# Altium integrated library TI Data Converters Analog to Digital Converter.IntLib: 2197 symbols (part 108 of 168)
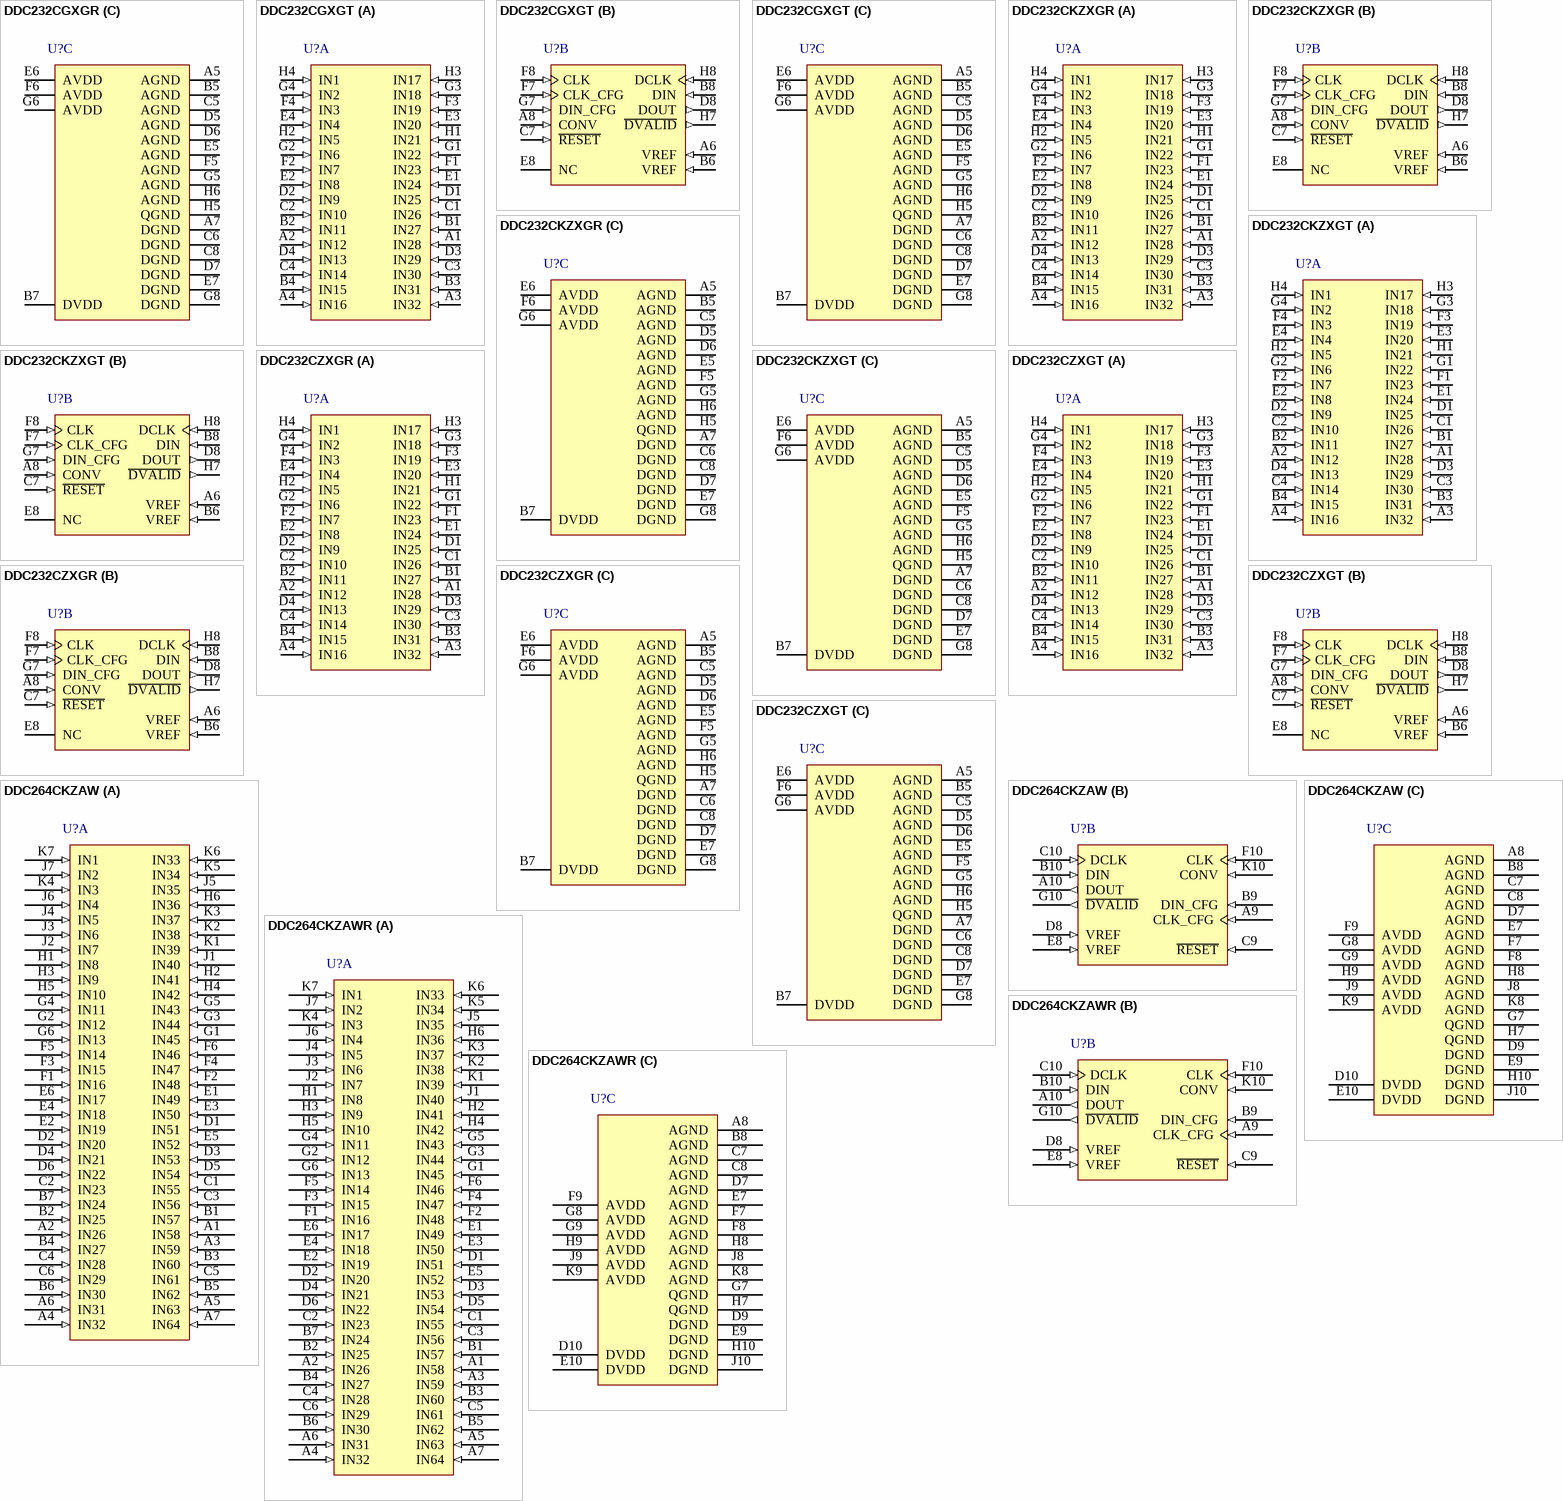
[diagram p233: symbols DDC232CGXGR to DDC264CKZAWR]

## DDC232CZXGR
designator U?
32 Channel Current-Input 20-Bit ADC, 0 to 70 degC, 64-pin BGA (ZXG64), Green (RoHS & no Sb/Br); Manufacturer: Texas Instruments; PartNumber: DDC232CZXGR; # Input Channels: 32; Analog Voltage AV/DD(Max)(V): 5.25; Analog Voltage AV/DD(Min)(V): 4.75; Architecture: Delta-Sigma; Digital Supply(Max)(V): 3.6; Digital Supply(Min)(V): 2.7; Resolution(Bits): 20; Sample Rate (max)(SPS): 3.125k; SubFamily: Low Power, 8-Bit, Dual 1.5 GSPS or Single 3.0 GSPS A/D Converter; DatasheetVersion: SBAS331D; PackageVersion: 4206838/A, 02/2005; PackageReference: ZXG64; PackageDescription: 64-Pin Plastic Ball Grid Array, Body 8 x 8 mm, Pitch 0.8 mm; Supplier 1: Digi-Key; Supplier Part Number 1: ADS574KEG4-ND; Supplier 2: Mouser; Supplier Part Number 2: 595-ADS574KEG4; Eco-Plan: Green (RoHS & no Sb/Br); Mounting Technology: Surface Mount; ComponentLink1Description: Manufacturer URL; ComponentLink1URL: http://www.ti.com/; ComponentLink2Description: Datasheet; ComponentLink2URL: http://www.ti.com/general/docs/lit/getliterature.tsp?genericPartNumber=DDC232&fileType=pdf; ComponentLink3Description: Package Specification; ComponentLink3URL: http://www.ti.com/litv/pdf/mpbg581
footprint TI-ZXG64 (BGA, 64-Balls, Body 8x8mm, Pitch 0.8mm)
part A pins: A1 IN28 (in) "Analog Inputs for Channels 1 to 32", A2 IN12 (in) "Analog Inputs for Channels 1 to 32", A3 IN32 (in) "Analog Inputs for Channels 1 to 32", A4 IN16 (in) "Analog Inputs for Channels 1 to 32", B1 IN27 (in) "Analog Inputs for Channels 1 to 32", B2 IN11 (in) "Analog Inputs for Channels 1 to 32", B3 IN31 (in) "Analog Inputs for Channels 1 to 32", B4 IN15 (in) "Analog Inputs for Channels 1 to 32", C1 IN26 (in) "Analog Inputs for Channels 1 to 32", C2 IN10 (in) "Analog Inputs for Channels 1 to 32", C3 IN30 (in) "Analog Inputs for Channels 1 to 32", C4 IN14 (in) "Analog Inputs for Channels 1 to 32", D1 IN25 (in) "Analog Inputs for Channels 1 to 32", D2 IN9 (in) "Analog Inputs for Channels 1 to 32", D3 IN29 (in) "Analog Inputs for Channels 1 to 32", D4 IN13 (in) "Analog Inputs for Channels 1 to 32", E1 IN24 (in) "Analog Inputs for Channels 1 to 32", E2 IN8 (in) "Analog Inputs for Channels 1 to 32", E3 IN20 (in) "Analog Inputs for Channels 1 to 32", E4 IN4 (in) "Analog Inputs for Channels 1 to 32", F1 IN23 (in) "Analog Inputs for Channels 1 to 32", F2 IN7 (in) "Analog Inputs for Channels 1 to 32", F3 IN19 (in) "Analog Inputs for Channels 1 to 32", F4 IN3 (in) "Analog Inputs for Channels 1 to 32", G1 IN22 (in) "Analog Inputs for Channels 1 to 32", G2 IN6 (in) "Analog Inputs for Channels 1 to 32", G3 IN18 (in) "Analog Inputs for Channels 1 to 32", G4 IN2 (in) "Analog Inputs for Channels 1 to 32", H1 IN21 (in) "Analog Inputs for Channels 1 to 32", H2 IN5 (in) "Analog Inputs for Channels 1 to 32", H3 IN17 (in) "Analog Inputs for Channels 1 to 32", H4 IN1 (in) "Analog Inputs for Channels 1 to 32"
part B pins: A6 VREF (in) "External Voltage Reference Input, +4.096V Nominal", A8 CONV (in) "Conversion Control Input; 0 = Integrate on Side B, 1 = Integrate on Side A", B6 VREF (in) "External Voltage Reference Input, +4.096V Nominal", B8 DIN (in) "Serial Data Input", C7 ~{RESET} (in) "Digital Reset, Active Low", D8 DOUT (out) "Serial Data Output", E8 NC "Do not connect; must be left floating.", F7 CLK_CFG (in) "Configuration Register Clock Input", F8 CLK (in) "Master Clock Input", G7 DIN_CFG (in) "Configuration Register Data Input", H7 ~{DVALID} (out) "Data Valid Output, Active Low", H8 DCLK (in) "Serial Data Clock Input"
part C pins: A5 AGND (power) "Analog Ground", A7 DGND (power) "Digital Ground", B5 AGND (power) "Analog Ground", B7 DVDD (power) "Digital Power Supply, 3.3V Nominal", C5 AGND (power) "Analog Ground", C6 DGND (power) "Digital Ground", C8 DGND (power) "Digital Ground", D5 AGND (power) "Analog Ground", D6 AGND (power) "Analog Ground", D7 DGND (power) "Digital Ground", E5 AGND (power) "Analog Ground", E6 AVDD (power) "Analog Power Supply, +5V Nominal", E7 DGND (power) "Digital Ground", F5 AGND (power) "Analog Ground", F6 AVDD (power) "Analog Power Supply, +5V Nominal", G5 AGND (power) "Analog Ground", G6 AVDD (power) "Analog Power Supply, +5V Nominal", G8 DGND (power) "Digital Ground", H5 QGND (power) "Quiet Analog Ground", H6 AGND (power) "Analog Ground"

## DDC232CZXGT
designator U?
32 Channel Current-Input 20-Bit ADC, 0 to 70 degC, 64-pin BGA (ZXG64), Green (RoHS & no Sb/Br); Manufacturer: Texas Instruments; PartNumber: DDC232CZXGT; # Input Channels: 32; Analog Voltage AV/DD(Max)(V): 5.25; Analog Voltage AV/DD(Min)(V): 4.75; Architecture: Delta-Sigma; Digital Supply(Max)(V): 3.6; Digital Supply(Min)(V): 2.7; Resolution(Bits): 20; Sample Rate (max)(SPS): 3.125k; SubFamily: Low Power, 8-Bit, Dual 1.5 GSPS or Single 3.0 GSPS A/D Converter; DatasheetVersion: SBAS331D; PackageVersion: 4206838/A, 02/2005; PackageReference: ZXG64; PackageDescription: 64-Pin Plastic Ball Grid Array, Body 8 x 8 mm, Pitch 0.8 mm; Supplier 1: Digi-Key; Supplier Part Number 1: ADS574KP-ND; Supplier 2: Newark; Supplier Part Number 2: 14M8145; Supplier 3: Mouser; Supplier Part Number 3: 595-ADS574KP; Eco-Plan: Green (RoHS & no Sb/Br); Mounting Technology: Surface Mount; ComponentLink1Description: Manufacturer URL; ComponentLink1URL: http://www.ti.com/; ComponentLink2Description: Datasheet; ComponentLink2URL: http://www.ti.com/general/docs/lit/getliterature.tsp?genericPartNumber=DDC232&fileType=pdf; ComponentLink3Description: Package Specification; ComponentLink3URL: http://www.ti.com/litv/pdf/mpbg581
footprint TI-ZXG64 (BGA, 64-Balls, Body 8x8mm, Pitch 0.8mm)
part A pins: A1 IN28 (in) "Analog Inputs for Channels 1 to 32", A2 IN12 (in) "Analog Inputs for Channels 1 to 32", A3 IN32 (in) "Analog Inputs for Channels 1 to 32", A4 IN16 (in) "Analog Inputs for Channels 1 to 32", B1 IN27 (in) "Analog Inputs for Channels 1 to 32", B2 IN11 (in) "Analog Inputs for Channels 1 to 32", B3 IN31 (in) "Analog Inputs for Channels 1 to 32", B4 IN15 (in) "Analog Inputs for Channels 1 to 32", C1 IN26 (in) "Analog Inputs for Channels 1 to 32", C2 IN10 (in) "Analog Inputs for Channels 1 to 32", C3 IN30 (in) "Analog Inputs for Channels 1 to 32", C4 IN14 (in) "Analog Inputs for Channels 1 to 32", D1 IN25 (in) "Analog Inputs for Channels 1 to 32", D2 IN9 (in) "Analog Inputs for Channels 1 to 32", D3 IN29 (in) "Analog Inputs for Channels 1 to 32", D4 IN13 (in) "Analog Inputs for Channels 1 to 32", E1 IN24 (in) "Analog Inputs for Channels 1 to 32", E2 IN8 (in) "Analog Inputs for Channels 1 to 32", E3 IN20 (in) "Analog Inputs for Channels 1 to 32", E4 IN4 (in) "Analog Inputs for Channels 1 to 32", F1 IN23 (in) "Analog Inputs for Channels 1 to 32", F2 IN7 (in) "Analog Inputs for Channels 1 to 32", F3 IN19 (in) "Analog Inputs for Channels 1 to 32", F4 IN3 (in) "Analog Inputs for Channels 1 to 32", G1 IN22 (in) "Analog Inputs for Channels 1 to 32", G2 IN6 (in) "Analog Inputs for Channels 1 to 32", G3 IN18 (in) "Analog Inputs for Channels 1 to 32", G4 IN2 (in) "Analog Inputs for Channels 1 to 32", H1 IN21 (in) "Analog Inputs for Channels 1 to 32", H2 IN5 (in) "Analog Inputs for Channels 1 to 32", H3 IN17 (in) "Analog Inputs for Channels 1 to 32", H4 IN1 (in) "Analog Inputs for Channels 1 to 32"
part B pins: A6 VREF (in) "External Voltage Reference Input, +4.096V Nominal", A8 CONV (in) "Conversion Control Input; 0 = Integrate on Side B, 1 = Integrate on Side A", B6 VREF (in) "External Voltage Reference Input, +4.096V Nominal", B8 DIN (in) "Serial Data Input", C7 ~{RESET} (in) "Digital Reset, Active Low", D8 DOUT (out) "Serial Data Output", E8 NC "Do not connect; must be left floating.", F7 CLK_CFG (in) "Configuration Register Clock Input", F8 CLK (in) "Master Clock Input", G7 DIN_CFG (in) "Configuration Register Data Input", H7 ~{DVALID} (out) "Data Valid Output, Active Low", H8 DCLK (in) "Serial Data Clock Input"
part C pins: A5 AGND (power) "Analog Ground", A7 DGND (power) "Digital Ground", B5 AGND (power) "Analog Ground", B7 DVDD (power) "Digital Power Supply, 3.3V Nominal", C5 AGND (power) "Analog Ground", C6 DGND (power) "Digital Ground", C8 DGND (power) "Digital Ground", D5 AGND (power) "Analog Ground", D6 AGND (power) "Analog Ground", D7 DGND (power) "Digital Ground", E5 AGND (power) "Analog Ground", E6 AVDD (power) "Analog Power Supply, +5V Nominal", E7 DGND (power) "Digital Ground", F5 AGND (power) "Analog Ground", F6 AVDD (power) "Analog Power Supply, +5V Nominal", G5 AGND (power) "Analog Ground", G6 AVDD (power) "Analog Power Supply, +5V Nominal", G8 DGND (power) "Digital Ground", H5 QGND (power) "Quiet Analog Ground", H6 AGND (power) "Analog Ground"

## DDC264CKZAW
designator U?
64-Channel, Current-Input ADC, 0 to 70 degC, 100-pin BGA (ZAW100), Green (RoHS & no Sb/Br); Manufacturer: Texas Instruments; PartNumber: DDC264CKZAW; # Input Channels: 64; Analog Voltage AV/DD(Max)(V): 5.25; Analog Voltage AV/DD(Min)(V): 4.75; Architecture: Delta-Sigma; Digital Supply(Max)(V): 3.6; Digital Supply(Min)(V): 2.7; Resolution(Bits): 20; Sample Rate (max)(SPS): 6.25k; SubFamily: Current Input ADC; DatasheetVersion: SBAS368C; PackageVersion: 4208028/C, 08/2009; PackageReference: ZAW100; PackageDescription: 100-Pin Plastic Ball Grid Array, Body 9 x 9 mm, Pitch 0.8 mm; Supplier 1: Digi-Key; Supplier Part Number 1: ADS574KPG4-ND; Supplier 2: Newark; Supplier Part Number 2: 99K1776; Supplier 3: Mouser; Supplier Part Number 3: 595-ADS574KPG4; Eco-Plan: Green (RoHS & no Sb/Br); Mounting Technology: Surface Mount; ComponentLink1Description: Manufacturer URL; ComponentLink1URL: http://www.ti.com/; ComponentLink2Description: Datasheet; ComponentLink2URL: http://www.ti.com/general/docs/lit/getliterature.tsp?genericPartNumber=DDC264&fileType=pdf; ComponentLink3Description: Package Specification; ComponentLink3URL: http://www.ti.com/litv/pdf/mpbg757b
footprint TI-ZAW100 (BGA, 100-Balls, Body 9x9mm, Pitch 0.8mm)
part A pins: A1 IN58 (in) "Analog inputs for channels 1 to 64", A2 IN26 (in) "Analog inputs for channels 1 to 64", A3 IN59 (in) "Analog inputs for channels 1 to 64", A4 IN32 (in) "Analog inputs for channels 1 to 64", A5 IN63 (in) "Analog inputs for channels 1 to 64", A6 IN31 (in) "Analog inputs for channels 1 to 64", A7 IN64 (in) "Analog inputs for channels 1 to 64", B1 IN57 (in) "Analog inputs for channels 1 to 64", B2 IN25 (in) "Analog inputs for channels 1 to 64", B3 IN60 (in) "Analog inputs for channels 1 to 64", B4 IN27 (in) "Analog inputs for channels 1 to 64", B5 IN62 (in) "Analog inputs for channels 1 to 64", B6 IN30 (in) "Analog inputs for channels 1 to 64", B7 IN24 (in) "Analog inputs for channels 1 to 64", C1 IN55 (in) "Analog inputs for channels 1 to 64", C2 IN23 (in) "Analog inputs for channels 1 to 64", C3 IN56 (in) "Analog inputs for channels 1 to 64", C4 IN28 (in) "Analog inputs for channels 1 to 64", C5 IN61 (in) "Analog inputs for channels 1 to 64", C6 IN29 (in) "Analog inputs for channels 1 to 64", D1 IN51 (in) "Analog inputs for channels 1 to 64", D2 IN20 (in) "Analog inputs for channels 1 to 64", D3 IN53 (in) "Analog inputs for channels 1 to 64", D4 IN21 (in) "Analog inputs for channels 1 to 64", D5 IN54 (in) "Analog inputs for channels 1 to 64", D6 IN22 (in) "Analog inputs for channels 1 to 64", E1 IN49 (in) "Analog inputs for channels 1 to 64", E2 IN19 (in) "Analog inputs for channels 1 to 64", E3 IN50 (in) "Analog inputs for channels 1 to 64", E4 IN18 (in) "Analog inputs for channels 1 to 64", E5 IN52 (in) "Analog inputs for channels 1 to 64", E6 IN17 (in) "Analog inputs for channels 1 to 64", F1 IN16 (in) "Analog inputs for channels 1 to 64", F2 IN48 (in) "Analog inputs for channels 1 to 64", F3 IN15 (in) "Analog inputs for channels 1 to 64", F4 IN47 (in) "Analog inputs for channels 1 to 64", F5 IN14 (in) "Analog inputs for channels 1 to 64", F6 IN46 (in) "Analog inputs for channels 1 to 64", G1 IN45 (in) "Analog inputs for channels 1 to 64", G2 IN12 (in) "Analog inputs for channels 1 to 64", G3 IN44 (in) "Analog inputs for channels 1 to 64", G4 IN11 (in) "Analog inputs for channels 1 to 64", G5 IN43 (in) "Analog inputs for channels 1 to 64", G6 IN13 (in) "Analog inputs for channels 1 to 64", H1 IN8 (in) "Analog inputs for channels 1 to 64", H2 IN41 (in) "Analog inputs for channels 1 to 64", H3 IN9 (in) "Analog inputs for channels 1 to 64", H4 IN42 (in) "Analog inputs for channels 1 to 64", H5 IN10 (in) "Analog inputs for channels 1 to 64", H6 IN36 (in) "Analog inputs for channels 1 to 64", J1 IN40 (in) "Analog inputs for channels 1 to 64", J2 IN7 (in) "Analog inputs for channels 1 to 64", J3 IN6 (in) "Analog inputs for channels 1 to 64", J4 IN5 (in) "Analog inputs for channels 1 to 64", J5 IN35 (in) "Analog inputs for channels 1 to 64", J6 IN4 (in) "Analog inputs for channels 1 to 64", J7 IN2 (in) "Analog inputs for channels 1 to 64", K1 IN39 (in) "Analog inputs for channels 1 to 64", K2 IN38 (in) "Analog inputs for channels 1 to 64", K3 IN37 (in) "Analog inputs for channels 1 to 64", K4 IN3 (in) "Analog inputs for channels 1 to 64", K5 IN34 (in) "Analog inputs for channels 1 to 64", K6 IN33 (in) "Analog inputs for channels 1 to 64", K7 IN1 (in) "Analog inputs for channels 1 to 64"
part B pins: A9 CLK_CFG (in) "Configuration register clock input", A10 DOUT (out) "Serial data output", B9 DIN_CFG (in) "Configuration register data input", B10 DIN (in) "Serial data input", C9 ~{RESET} (in) "Digital reset, active low", C10 DCLK (in) "Serial data clock input", D8 VREF (in) "External voltage reference input, +4.096V nominal", E8 VREF (in) "External voltage reference input, +4.096V nominal", F10 CLK (in) "Master clock input", G10 ~{DVALID} (out) "Data valid output, active low", K10 CONV (in) "Conversion control input: 0 = integrate on side B; 1 = integrate on side A"
part C pins: A8 AGND (power) "Analog ground", B8 AGND (power) "Analog ground", C7 AGND (power) "Analog ground", C8 AGND (power) "Analog ground", D7 AGND (power) "Analog ground", D9 DGND (power) "Digital ground", D10 DVDD (power) "Digital power supply, +3.3V nominal", E7 AGND (power) "Analog ground", E9 DGND (power) "Digital ground", E10 DVDD (power) "Digital power supply, +3.3V nominal", F7 AGND (power) "Analog ground", F8 AGND (power) "Analog ground", F9 AVDD (power) "Analog power supply, +5V nominal", G7 QGND (power) "Quiet analog ground; see the guidelines described in the Layout section", G8 AVDD (power) "Analog power supply, +5V nominal", G9 AVDD (power) "Analog power supply, +5V nominal", H7 QGND (power) "Quiet analog ground; see the guidelines described in the Layout section", H8 AGND (power) "Analog ground", H9 AVDD (power) "Analog power supply, +5V nominal", H10 DGND (power) "Digital ground", J8 AGND (power) "Analog ground", J9 AVDD (power) "Analog power supply, +5V nominal", J10 DGND (power) "Digital ground", K8 AGND (power) "Analog ground", K9 AVDD (power) "Analog power supply, +5V nominal"

## DDC264CKZAWR
designator U?
64-Channel, Current-Input ADC, 0 to 70 degC, 100-pin BGA (ZAW100), Green (RoHS & no Sb/Br); Manufacturer: Texas Instruments; PartNumber: DDC264CKZAWR; # Input Channels: 64; Analog Voltage AV/DD(Max)(V): 5.25; Analog Voltage AV/DD(Min)(V): 4.75; Architecture: Delta-Sigma; Digital Supply(Max)(V): 3.6; Digital Supply(Min)(V): 2.7; Resolution(Bits): 20; Sample Rate (max)(SPS): 6.25k; SubFamily: Current Input ADC; DatasheetVersion: SBAS368C; PackageVersion: 4208028/C, 08/2009; PackageReference: ZAW100; PackageDescription: 100-Pin Plastic Ball Grid Array, Body 9 x 9 mm, Pitch 0.8 mm; Supplier 1: Digi-Key; Supplier Part Number 1: ADS7800JP-ND; Supplier 2: Farnell; Supplier Part Number 2: 1648599; Supplier 3: Newark; Supplier Part Number 3: 80P3658; Supplier 4: Newark; Supplier Part Number 4: 14M8147; Supplier 5: Mouser; Supplier Part Number 5: 595-ADS7800JP; Eco-Plan: Green (RoHS & no Sb/Br); Mounting Technology: Surface Mount; ComponentLink1Description: Manufacturer URL; ComponentLink1URL: http://www.ti.com/; ComponentLink2Description: Datasheet; ComponentLink2URL: http://www.ti.com/general/docs/lit/getliterature.tsp?genericPartNumber=DDC264&fileType=pdf; ComponentLink3Description: Package Specification; ComponentLink3URL: http://www.ti.com/litv/pdf/mpbg757b
footprint TI-ZAW100 (BGA, 100-Balls, Body 9x9mm, Pitch 0.8mm)
part A pins: A1 IN58 (in) "Analog inputs for channels 1 to 64", A2 IN26 (in) "Analog inputs for channels 1 to 64", A3 IN59 (in) "Analog inputs for channels 1 to 64", A4 IN32 (in) "Analog inputs for channels 1 to 64", A5 IN63 (in) "Analog inputs for channels 1 to 64", A6 IN31 (in) "Analog inputs for channels 1 to 64", A7 IN64 (in) "Analog inputs for channels 1 to 64", B1 IN57 (in) "Analog inputs for channels 1 to 64", B2 IN25 (in) "Analog inputs for channels 1 to 64", B3 IN60 (in) "Analog inputs for channels 1 to 64", B4 IN27 (in) "Analog inputs for channels 1 to 64", B5 IN62 (in) "Analog inputs for channels 1 to 64", B6 IN30 (in) "Analog inputs for channels 1 to 64", B7 IN24 (in) "Analog inputs for channels 1 to 64", C1 IN55 (in) "Analog inputs for channels 1 to 64", C2 IN23 (in) "Analog inputs for channels 1 to 64", C3 IN56 (in) "Analog inputs for channels 1 to 64", C4 IN28 (in) "Analog inputs for channels 1 to 64", C5 IN61 (in) "Analog inputs for channels 1 to 64", C6 IN29 (in) "Analog inputs for channels 1 to 64", D1 IN51 (in) "Analog inputs for channels 1 to 64", D2 IN20 (in) "Analog inputs for channels 1 to 64", D3 IN53 (in) "Analog inputs for channels 1 to 64", D4 IN21 (in) "Analog inputs for channels 1 to 64", D5 IN54 (in) "Analog inputs for channels 1 to 64", D6 IN22 (in) "Analog inputs for channels 1 to 64", E1 IN49 (in) "Analog inputs for channels 1 to 64", E2 IN19 (in) "Analog inputs for channels 1 to 64", E3 IN50 (in) "Analog inputs for channels 1 to 64", E4 IN18 (in) "Analog inputs for channels 1 to 64", E5 IN52 (in) "Analog inputs for channels 1 to 64", E6 IN17 (in) "Analog inputs for channels 1 to 64", F1 IN16 (in) "Analog inputs for channels 1 to 64", F2 IN48 (in) "Analog inputs for channels 1 to 64", F3 IN15 (in) "Analog inputs for channels 1 to 64", F4 IN47 (in) "Analog inputs for channels 1 to 64", F5 IN14 (in) "Analog inputs for channels 1 to 64", F6 IN46 (in) "Analog inputs for channels 1 to 64", G1 IN45 (in) "Analog inputs for channels 1 to 64", G2 IN12 (in) "Analog inputs for channels 1 to 64", G3 IN44 (in) "Analog inputs for channels 1 to 64", G4 IN11 (in) "Analog inputs for channels 1 to 64", G5 IN43 (in) "Analog inputs for channels 1 to 64", G6 IN13 (in) "Analog inputs for channels 1 to 64", H1 IN8 (in) "Analog inputs for channels 1 to 64", H2 IN41 (in) "Analog inputs for channels 1 to 64", H3 IN9 (in) "Analog inputs for channels 1 to 64", H4 IN42 (in) "Analog inputs for channels 1 to 64", H5 IN10 (in) "Analog inputs for channels 1 to 64", H6 IN36 (in) "Analog inputs for channels 1 to 64", J1 IN40 (in) "Analog inputs for channels 1 to 64", J2 IN7 (in) "Analog inputs for channels 1 to 64", J3 IN6 (in) "Analog inputs for channels 1 to 64", J4 IN5 (in) "Analog inputs for channels 1 to 64", J5 IN35 (in) "Analog inputs for channels 1 to 64", J6 IN4 (in) "Analog inputs for channels 1 to 64", J7 IN2 (in) "Analog inputs for channels 1 to 64", K1 IN39 (in) "Analog inputs for channels 1 to 64", K2 IN38 (in) "Analog inputs for channels 1 to 64", K3 IN37 (in) "Analog inputs for channels 1 to 64", K4 IN3 (in) "Analog inputs for channels 1 to 64", K5 IN34 (in) "Analog inputs for channels 1 to 64", K6 IN33 (in) "Analog inputs for channels 1 to 64", K7 IN1 (in) "Analog inputs for channels 1 to 64"
part B pins: A9 CLK_CFG (in) "Configuration register clock input", A10 DOUT (out) "Serial data output", B9 DIN_CFG (in) "Configuration register data input", B10 DIN (in) "Serial data input", C9 ~{RESET} (in) "Digital reset, active low", C10 DCLK (in) "Serial data clock input", D8 VREF (in) "External voltage reference input, +4.096V nominal", E8 VREF (in) "External voltage reference input, +4.096V nominal", F10 CLK (in) "Master clock input", G10 ~{DVALID} (out) "Data valid output, active low", K10 CONV (in) "Conversion control input: 0 = integrate on side B; 1 = integrate on side A"
part C pins: A8 AGND (power) "Analog ground", B8 AGND (power) "Analog ground", C7 AGND (power) "Analog ground", C8 AGND (power) "Analog ground", D7 AGND (power) "Analog ground", D9 DGND (power) "Digital ground", D10 DVDD (power) "Digital power supply, +3.3V nominal", E7 AGND (power) "Analog ground", E9 DGND (power) "Digital ground", E10 DVDD (power) "Digital power supply, +3.3V nominal", F7 AGND (power) "Analog ground", F8 AGND (power) "Analog ground", F9 AVDD (power) "Analog power supply, +5V nominal", G7 QGND (power) "Quiet analog ground; see the guidelines described in the Layout section", G8 AVDD (power) "Analog power supply, +5V nominal", G9 AVDD (power) "Analog power supply, +5V nominal", H7 QGND (power) "Quiet analog ground; see the guidelines described in the Layout section", H8 AGND (power) "Analog ground", H9 AVDD (power) "Analog power supply, +5V nominal", H10 DGND (power) "Digital ground", J8 AGND (power) "Analog ground", J9 AVDD (power) "Analog power supply, +5V nominal", J10 DGND (power) "Digital ground", K8 AGND (power) "Analog ground", K9 AVDD (power) "Analog power supply, +5V nominal"

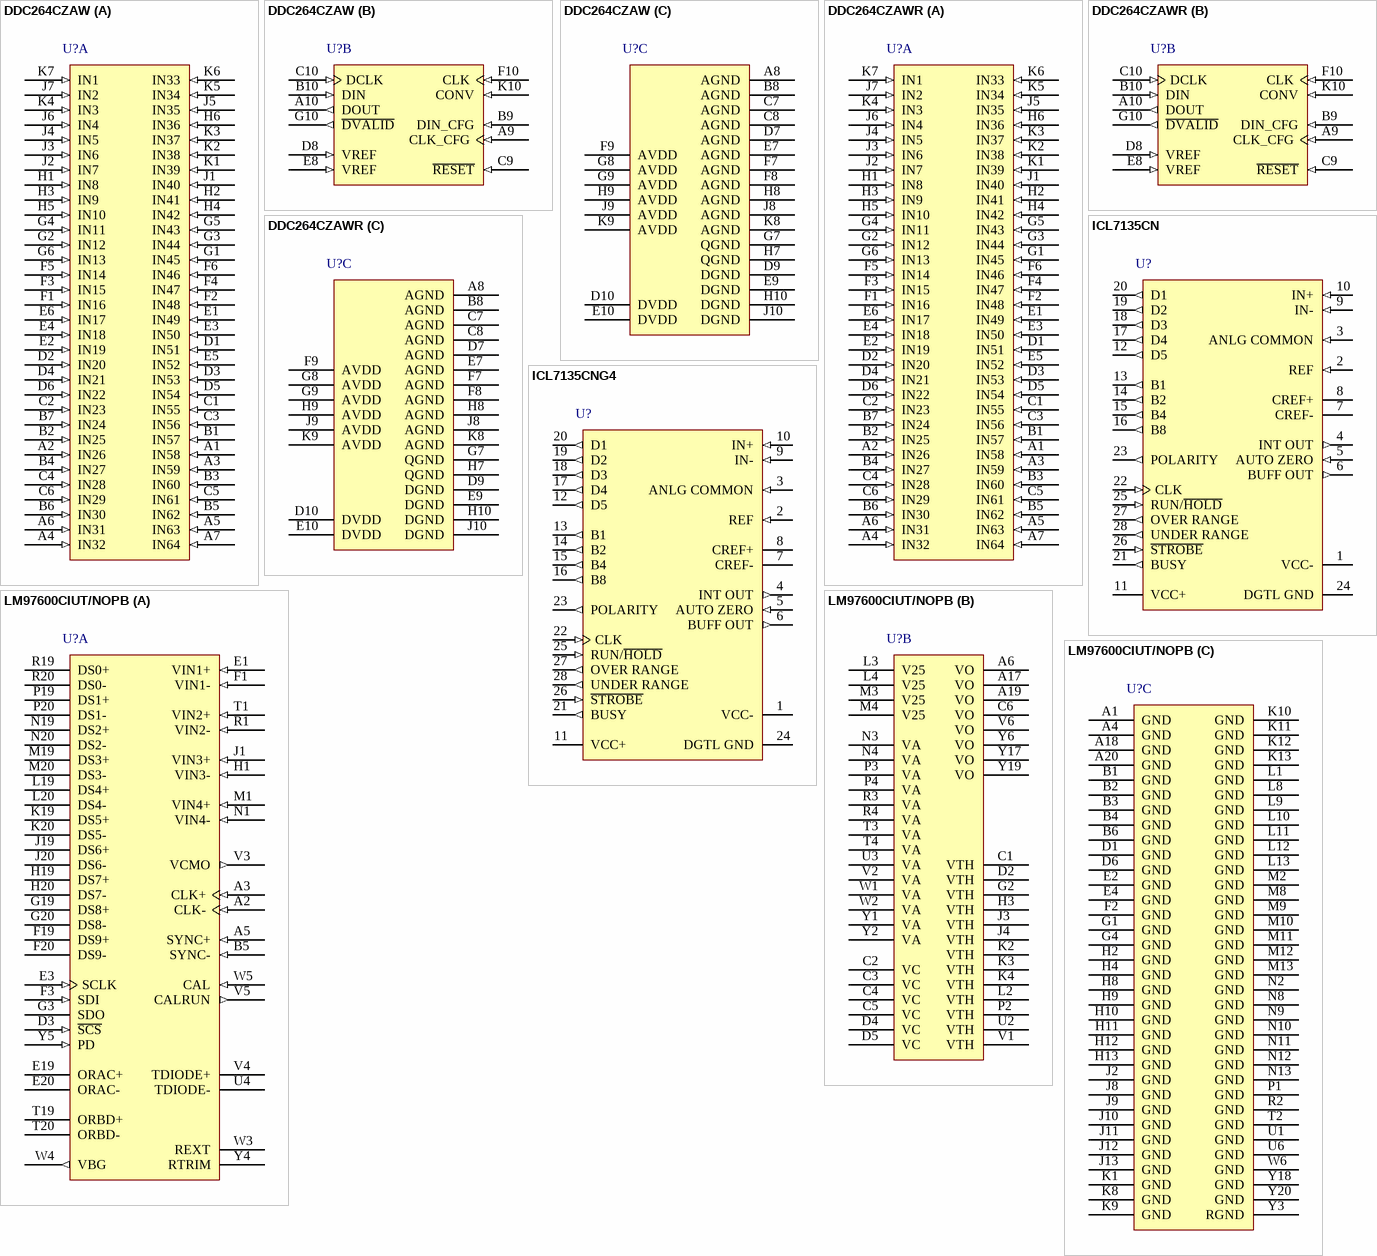
[diagram p92: symbols DDC264CZAW to LM97600CIUT/NOPB]

## DDC264CZAW
designator U?
64-Channel, Current-Input ADC, 0 to 70 degC, 100-pin BGA (ZAW100), Green (RoHS & no Sb/Br); Manufacturer: Texas Instruments; PartNumber: DDC264CZAW; # Input Channels: 64; Analog Voltage AV/DD(Max)(V): 5.25; Analog Voltage AV/DD(Min)(V): 4.75; Architecture: Delta-Sigma; Digital Supply(Max)(V): 3.6; Digital Supply(Min)(V): 2.7; Resolution(Bits): 20; Sample Rate (max)(SPS): 3.125K; SubFamily: Current Input ADC; DatasheetVersion: SBAS368C; PackageVersion: 4208028/C, 08/2009; PackageReference: ZAW100; PackageDescription: 100-Pin Plastic Ball Grid Array, Body 9 x 9 mm, Pitch 0.8 mm; Supplier 1: Digi-Key; Supplier Part Number 1: ADS7800JPG4-ND; Supplier 2: Mouser; Supplier Part Number 2: 595-ADS7800JPG4; Eco-Plan: Green (RoHS & no Sb/Br); Mounting Technology: Surface Mount; ComponentLink1Description: Manufacturer URL; ComponentLink1URL: http://www.ti.com/; ComponentLink2Description: Datasheet; ComponentLink2URL: http://www.ti.com/general/docs/lit/getliterature.tsp?genericPartNumber=DDC264&fileType=pdf; ComponentLink3Description: Package Specification; ComponentLink3URL: http://www.ti.com/litv/pdf/mpbg757b
footprint TI-ZAW100 (BGA, 100-Balls, Body 9x9mm, Pitch 0.8mm)
part A pins: A1 IN58 (in) "Analog inputs for channels 1 to 64", A2 IN26 (in) "Analog inputs for channels 1 to 64", A3 IN59 (in) "Analog inputs for channels 1 to 64", A4 IN32 (in) "Analog inputs for channels 1 to 64", A5 IN63 (in) "Analog inputs for channels 1 to 64", A6 IN31 (in) "Analog inputs for channels 1 to 64", A7 IN64 (in) "Analog inputs for channels 1 to 64", B1 IN57 (in) "Analog inputs for channels 1 to 64", B2 IN25 (in) "Analog inputs for channels 1 to 64", B3 IN60 (in) "Analog inputs for channels 1 to 64", B4 IN27 (in) "Analog inputs for channels 1 to 64", B5 IN62 (in) "Analog inputs for channels 1 to 64", B6 IN30 (in) "Analog inputs for channels 1 to 64", B7 IN24 (in) "Analog inputs for channels 1 to 64", C1 IN55 (in) "Analog inputs for channels 1 to 64", C2 IN23 (in) "Analog inputs for channels 1 to 64", C3 IN56 (in) "Analog inputs for channels 1 to 64", C4 IN28 (in) "Analog inputs for channels 1 to 64", C5 IN61 (in) "Analog inputs for channels 1 to 64", C6 IN29 (in) "Analog inputs for channels 1 to 64", D1 IN51 (in) "Analog inputs for channels 1 to 64", D2 IN20 (in) "Analog inputs for channels 1 to 64", D3 IN53 (in) "Analog inputs for channels 1 to 64", D4 IN21 (in) "Analog inputs for channels 1 to 64", D5 IN54 (in) "Analog inputs for channels 1 to 64", D6 IN22 (in) "Analog inputs for channels 1 to 64", E1 IN49 (in) "Analog inputs for channels 1 to 64", E2 IN19 (in) "Analog inputs for channels 1 to 64", E3 IN50 (in) "Analog inputs for channels 1 to 64", E4 IN18 (in) "Analog inputs for channels 1 to 64", E5 IN52 (in) "Analog inputs for channels 1 to 64", E6 IN17 (in) "Analog inputs for channels 1 to 64", F1 IN16 (in) "Analog inputs for channels 1 to 64", F2 IN48 (in) "Analog inputs for channels 1 to 64", F3 IN15 (in) "Analog inputs for channels 1 to 64", F4 IN47 (in) "Analog inputs for channels 1 to 64", F5 IN14 (in) "Analog inputs for channels 1 to 64", F6 IN46 (in) "Analog inputs for channels 1 to 64", G1 IN45 (in) "Analog inputs for channels 1 to 64", G2 IN12 (in) "Analog inputs for channels 1 to 64", G3 IN44 (in) "Analog inputs for channels 1 to 64", G4 IN11 (in) "Analog inputs for channels 1 to 64", G5 IN43 (in) "Analog inputs for channels 1 to 64", G6 IN13 (in) "Analog inputs for channels 1 to 64", H1 IN8 (in) "Analog inputs for channels 1 to 64", H2 IN41 (in) "Analog inputs for channels 1 to 64", H3 IN9 (in) "Analog inputs for channels 1 to 64", H4 IN42 (in) "Analog inputs for channels 1 to 64", H5 IN10 (in) "Analog inputs for channels 1 to 64", H6 IN36 (in) "Analog inputs for channels 1 to 64", J1 IN40 (in) "Analog inputs for channels 1 to 64", J2 IN7 (in) "Analog inputs for channels 1 to 64", J3 IN6 (in) "Analog inputs for channels 1 to 64", J4 IN5 (in) "Analog inputs for channels 1 to 64", J5 IN35 (in) "Analog inputs for channels 1 to 64", J6 IN4 (in) "Analog inputs for channels 1 to 64", J7 IN2 (in) "Analog inputs for channels 1 to 64", K1 IN39 (in) "Analog inputs for channels 1 to 64", K2 IN38 (in) "Analog inputs for channels 1 to 64", K3 IN37 (in) "Analog inputs for channels 1 to 64", K4 IN3 (in) "Analog inputs for channels 1 to 64", K5 IN34 (in) "Analog inputs for channels 1 to 64", K6 IN33 (in) "Analog inputs for channels 1 to 64", K7 IN1 (in) "Analog inputs for channels 1 to 64"
part B pins: A9 CLK_CFG (in) "Configuration register clock input", A10 DOUT (out) "Serial data output", B9 DIN_CFG (in) "Configuration register data input", B10 DIN (in) "Serial data input", C9 ~{RESET} (in) "Digital reset, active low", C10 DCLK (in) "Serial data clock input", D8 VREF (in) "External voltage reference input, +4.096V nominal", E8 VREF (in) "External voltage reference input, +4.096V nominal", F10 CLK (in) "Master clock input", G10 ~{DVALID} (out) "Data valid output, active low", K10 CONV (in) "Conversion control input: 0 = integrate on side B; 1 = integrate on side A"
part C pins: A8 AGND (power) "Analog ground", B8 AGND (power) "Analog ground", C7 AGND (power) "Analog ground", C8 AGND (power) "Analog ground", D7 AGND (power) "Analog ground", D9 DGND (power) "Digital ground", D10 DVDD (power) "Digital power supply, +3.3V nominal", E7 AGND (power) "Analog ground", E9 DGND (power) "Digital ground", E10 DVDD (power) "Digital power supply, +3.3V nominal", F7 AGND (power) "Analog ground", F8 AGND (power) "Analog ground", F9 AVDD (power) "Analog power supply, +5V nominal", G7 QGND (power) "Quiet analog ground; see the guidelines described in the Layout section", G8 AVDD (power) "Analog power supply, +5V nominal", G9 AVDD (power) "Analog power supply, +5V nominal", H7 QGND (power) "Quiet analog ground; see the guidelines described in the Layout section", H8 AGND (power) "Analog ground", H9 AVDD (power) "Analog power supply, +5V nominal", H10 DGND (power) "Digital ground", J8 AGND (power) "Analog ground", J9 AVDD (power) "Analog power supply, +5V nominal", J10 DGND (power) "Digital ground", K8 AGND (power) "Analog ground", K9 AVDD (power) "Analog power supply, +5V nominal"

## DDC264CZAWR
designator U?
64-Channel, Current-Input ADC, 0 to 70 degC, 100-pin BGA (ZAW100), Green (RoHS & no Sb/Br); Manufacturer: Texas Instruments; PartNumber: DDC264CZAWR; # Input Channels: 64; Analog Voltage AV/DD(Max)(V): 5.25; Analog Voltage AV/DD(Min)(V): 4.75; Architecture: Delta-Sigma; Digital Supply(Max)(V): 3.6; Digital Supply(Min)(V): 2.7; Resolution(Bits): 20; Sample Rate (max)(SPS): 3.125K; SubFamily: Current Input ADC; DatasheetVersion: SBAS368C; PackageVersion: 4208028/C, 08/2009; PackageReference: ZAW100; PackageDescription: 100-Pin Plastic Ball Grid Array, Body 9 x 9 mm, Pitch 0.8 mm; Supplier 1: Digi-Key; Supplier Part Number 1: ADS7800JU-ND; Supplier 2: Newark; Supplier Part Number 2: 74C6018; Supplier 3: Mouser; Supplier Part Number 3: 595-ADS7800JU; Eco-Plan: Green (RoHS & no Sb/Br); Mounting Technology: Surface Mount; ComponentLink1Description: Manufacturer URL; ComponentLink1URL: http://www.ti.com/; ComponentLink2Description: Datasheet; ComponentLink2URL: http://www.ti.com/general/docs/lit/getliterature.tsp?genericPartNumber=DDC264&fileType=pdf; ComponentLink3Description: Package Specification; ComponentLink3URL: http://www.ti.com/litv/pdf/mpbg757b
footprint TI-ZAW100 (BGA, 100-Balls, Body 9x9mm, Pitch 0.8mm)
part A pins: A1 IN58 (in) "Analog inputs for channels 1 to 64", A2 IN26 (in) "Analog inputs for channels 1 to 64", A3 IN59 (in) "Analog inputs for channels 1 to 64", A4 IN32 (in) "Analog inputs for channels 1 to 64", A5 IN63 (in) "Analog inputs for channels 1 to 64", A6 IN31 (in) "Analog inputs for channels 1 to 64", A7 IN64 (in) "Analog inputs for channels 1 to 64", B1 IN57 (in) "Analog inputs for channels 1 to 64", B2 IN25 (in) "Analog inputs for channels 1 to 64", B3 IN60 (in) "Analog inputs for channels 1 to 64", B4 IN27 (in) "Analog inputs for channels 1 to 64", B5 IN62 (in) "Analog inputs for channels 1 to 64", B6 IN30 (in) "Analog inputs for channels 1 to 64", B7 IN24 (in) "Analog inputs for channels 1 to 64", C1 IN55 (in) "Analog inputs for channels 1 to 64", C2 IN23 (in) "Analog inputs for channels 1 to 64", C3 IN56 (in) "Analog inputs for channels 1 to 64", C4 IN28 (in) "Analog inputs for channels 1 to 64", C5 IN61 (in) "Analog inputs for channels 1 to 64", C6 IN29 (in) "Analog inputs for channels 1 to 64", D1 IN51 (in) "Analog inputs for channels 1 to 64", D2 IN20 (in) "Analog inputs for channels 1 to 64", D3 IN53 (in) "Analog inputs for channels 1 to 64", D4 IN21 (in) "Analog inputs for channels 1 to 64", D5 IN54 (in) "Analog inputs for channels 1 to 64", D6 IN22 (in) "Analog inputs for channels 1 to 64", E1 IN49 (in) "Analog inputs for channels 1 to 64", E2 IN19 (in) "Analog inputs for channels 1 to 64", E3 IN50 (in) "Analog inputs for channels 1 to 64", E4 IN18 (in) "Analog inputs for channels 1 to 64", E5 IN52 (in) "Analog inputs for channels 1 to 64", E6 IN17 (in) "Analog inputs for channels 1 to 64", F1 IN16 (in) "Analog inputs for channels 1 to 64", F2 IN48 (in) "Analog inputs for channels 1 to 64", F3 IN15 (in) "Analog inputs for channels 1 to 64", F4 IN47 (in) "Analog inputs for channels 1 to 64", F5 IN14 (in) "Analog inputs for channels 1 to 64", F6 IN46 (in) "Analog inputs for channels 1 to 64", G1 IN45 (in) "Analog inputs for channels 1 to 64", G2 IN12 (in) "Analog inputs for channels 1 to 64", G3 IN44 (in) "Analog inputs for channels 1 to 64", G4 IN11 (in) "Analog inputs for channels 1 to 64", G5 IN43 (in) "Analog inputs for channels 1 to 64", G6 IN13 (in) "Analog inputs for channels 1 to 64", H1 IN8 (in) "Analog inputs for channels 1 to 64", H2 IN41 (in) "Analog inputs for channels 1 to 64", H3 IN9 (in) "Analog inputs for channels 1 to 64", H4 IN42 (in) "Analog inputs for channels 1 to 64", H5 IN10 (in) "Analog inputs for channels 1 to 64", H6 IN36 (in) "Analog inputs for channels 1 to 64", J1 IN40 (in) "Analog inputs for channels 1 to 64", J2 IN7 (in) "Analog inputs for channels 1 to 64", J3 IN6 (in) "Analog inputs for channels 1 to 64", J4 IN5 (in) "Analog inputs for channels 1 to 64", J5 IN35 (in) "Analog inputs for channels 1 to 64", J6 IN4 (in) "Analog inputs for channels 1 to 64", J7 IN2 (in) "Analog inputs for channels 1 to 64", K1 IN39 (in) "Analog inputs for channels 1 to 64", K2 IN38 (in) "Analog inputs for channels 1 to 64", K3 IN37 (in) "Analog inputs for channels 1 to 64", K4 IN3 (in) "Analog inputs for channels 1 to 64", K5 IN34 (in) "Analog inputs for channels 1 to 64", K6 IN33 (in) "Analog inputs for channels 1 to 64", K7 IN1 (in) "Analog inputs for channels 1 to 64"
part B pins: A9 CLK_CFG (in) "Configuration register clock input", A10 DOUT (out) "Serial data output", B9 DIN_CFG (in) "Configuration register data input", B10 DIN (in) "Serial data input", C9 ~{RESET} (in) "Digital reset, active low", C10 DCLK (in) "Serial data clock input", D8 VREF (in) "External voltage reference input, +4.096V nominal", E8 VREF (in) "External voltage reference input, +4.096V nominal", F10 CLK (in) "Master clock input", G10 ~{DVALID} (out) "Data valid output, active low", K10 CONV (in) "Conversion control input: 0 = integrate on side B; 1 = integrate on side A"
part C pins: A8 AGND (power) "Analog ground", B8 AGND (power) "Analog ground", C7 AGND (power) "Analog ground", C8 AGND (power) "Analog ground", D7 AGND (power) "Analog ground", D9 DGND (power) "Digital ground", D10 DVDD (power) "Digital power supply, +3.3V nominal", E7 AGND (power) "Analog ground", E9 DGND (power) "Digital ground", E10 DVDD (power) "Digital power supply, +3.3V nominal", F7 AGND (power) "Analog ground", F8 AGND (power) "Analog ground", F9 AVDD (power) "Analog power supply, +5V nominal", G7 QGND (power) "Quiet analog ground; see the guidelines described in the Layout section", G8 AVDD (power) "Analog power supply, +5V nominal", G9 AVDD (power) "Analog power supply, +5V nominal", H7 QGND (power) "Quiet analog ground; see the guidelines described in the Layout section", H8 AGND (power) "Analog ground", H9 AVDD (power) "Analog power supply, +5V nominal", H10 DGND (power) "Digital ground", J8 AGND (power) "Analog ground", J9 AVDD (power) "Analog power supply, +5V nominal", J10 DGND (power) "Digital ground", K8 AGND (power) "Analog ground", K9 AVDD (power) "Analog power supply, +5V nominal"

## ICL7135CN
designator U?
4.5-Bit, 0.003 kSPS ADC, Muxed BCD Output, True Differential Input, 1 Channel, 0 to 70 degC, 28-pin DIP (N28), Green (RoHS & no Sb/Br); Manufacturer: Texas Instruments; PartNumber: ICL7135CN; # Input Channels: 4; Analog Voltage AV/DD(Max)(V): 5.25; Analog Voltage AV/DD(Min)(V): 4.75; Architecture: Dual-Slope; Interface: Parallel CMOS; Resolution(Bits): 4.5; Sample Rate (max)(SPS): 3; SubFamily: High Speed ADC (>10MSPS); DatasheetVersion: SLAS074D; PackageVersion: 4040053/B, 04/1995; PackageReference: N28; PackageDescription: 28-Pin Plastic In-Line, Body 36.32 x 13.715 mm, Pitch 2.54 mm; Supplier 1: Digi-Key; Supplier Part Number 1: ADS7800JU/1K-ND; Supplier 2: Mouser; Supplier Part Number 2: 595-ADS7800JU/1K; Digital Supply(Max)(V): 5.25; Digital Supply(Min)(V): 4.75; Eco-Plan: Green (RoHS & no Sb/Br); Mounting Technology: Through Hole; Code_JEDEC: MS-011; ComponentLink1Description: Manufacturer URL; ComponentLink1URL: http://www.ti.com/; ComponentLink2Description: Datasheet; ComponentLink2URL: http://www.ti.com/general/docs/lit/getliterature.tsp?genericPartNumber=ICL7135&fileType=pdf; ComponentLink3Description: Package Specification; ComponentLink3URL: http://www.ti.com/litv/pdf/mpdi008
footprint TI-N28 (DIP, 28-Leads, Body 36.32x13.715 mm, Pitch 2.54 mm)
pins: 1 VCC- (power), 2 REF (in), 3 ANLG COMMON (in), 4 INT OUT (out), 5 AUTO ZERO (in), 6 BUFF OUT (out), 7 CREF-, 8 CREF+, 9 IN- (in), 10 IN+ (in), 11 VCC+ (power), 12 D5 (out), 13 B1 (out), 14 B2 (out), 15 B4 (out), 16 B8 (out), 17 D4 (out), 18 D3 (out), 19 D2 (out), 20 D1 (out), 21 BUSY (out), 22 CLK (in), 23 POLARITY (out), 24 DGTL GND (power), 25 RUN/~{HOLD} (in), 26 ~{STROBE} (in), 27 OVER RANGE (out), 28 UNDER RANGE (out)

## ICL7135CNG4
designator U?
4.5-Bit, 0.003 kSPS ADC, Muxed BCD Output, True Differential Input, 1 Channel, 0 to 70 degC, 28-pin DIP (N28), Green (RoHS & no Sb/Br); Manufacturer: Texas Instruments; PartNumber: ICL7135CNG4; # Input Channels: 4; Analog Voltage AV/DD(Max)(V): 5.25; Analog Voltage AV/DD(Min)(V): 4.75; Architecture: Dual-Slope; Interface: Parallel CMOS; Resolution(Bits): 4.5; Sample Rate (max)(SPS): 3; SubFamily: High Speed ADC (>10MSPS); DatasheetVersion: SLAS074D; PackageVersion: 4040053/B, 04/1995; PackageReference: N28; PackageDescription: 28-Pin Plastic In-Line, Body 36.32 x 13.715 mm, Pitch 2.54 mm; Supplier 1: Digi-Key; Supplier Part Number 1: ADS7800JU/1KE4-ND; Supplier 2: Mouser; Supplier Part Number 2: 595-ADS7800JU/1KE4; Digital Supply(Max)(V): 5.25; Digital Supply(Min)(V): 4.75; Eco-Plan: Green (RoHS & no Sb/Br); Mounting Technology: Through Hole; Code_JEDEC: MS-011; ComponentLink1Description: Manufacturer URL; ComponentLink1URL: http://www.ti.com/; ComponentLink2Description: Datasheet; ComponentLink2URL: http://www.ti.com/general/docs/lit/getliterature.tsp?genericPartNumber=ICL7135&fileType=pdf; ComponentLink3Description: Package Specification; ComponentLink3URL: http://www.ti.com/litv/pdf/mpdi008
footprint TI-N28 (DIP, 28-Leads, Body 36.32x13.715 mm, Pitch 2.54 mm)
pins: 1 VCC- (power), 2 REF (in), 3 ANLG COMMON (in), 4 INT OUT (out), 5 AUTO ZERO (in), 6 BUFF OUT (out), 7 CREF-, 8 CREF+, 9 IN- (in), 10 IN+ (in), 11 VCC+ (power), 12 D5 (out), 13 B1 (out), 14 B2 (out), 15 B4 (out), 16 B8 (out), 17 D4 (out), 18 D3 (out), 19 D2 (out), 20 D1 (out), 21 BUSY (out), 22 CLK (in), 23 POLARITY (out), 24 DGTL GND (power), 25 RUN/~{HOLD} (in), 26 ~{STROBE} (in), 27 OVER RANGE (out), 28 UNDER RANGE (out)

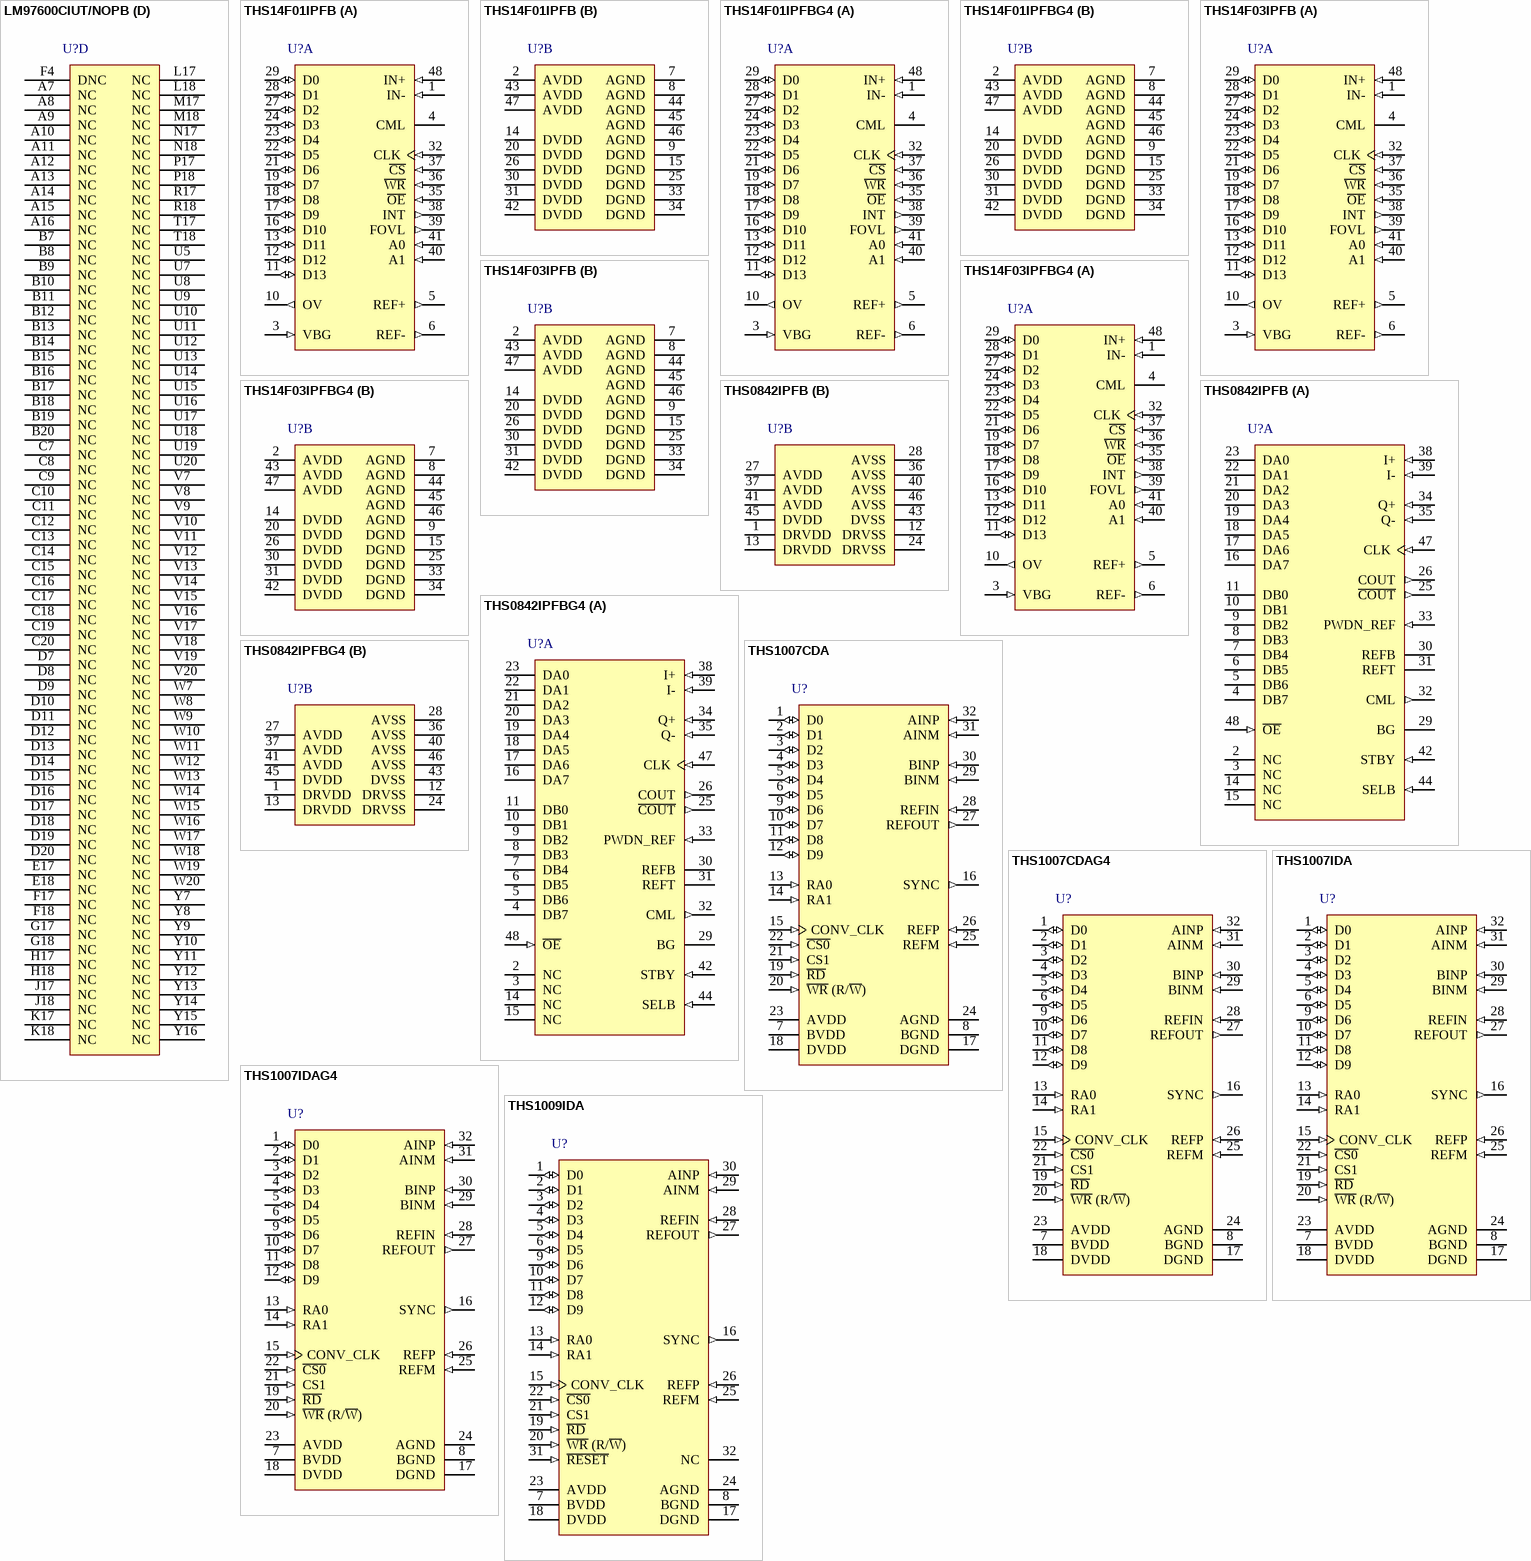
[diagram p93: symbols LM97600CIUT/NOPB to THS1009IDA]

## LM97600CIUT/NOPB
designator U?
4 Channel, 5 GSPS ADC with Buffered Inputs and Serial Data Outputs, -40 to 85 degC, 292-pin BGA (NXA292), Green (RoHS & no Sb/Br); Manufacturer: Texas Instruments; PartNumber: LM97600CIUT/NOPB; # Input Channels: 4; Analog Voltage AV/DD(Max)(V): 1.26; Analog Voltage AV/DD(Min)(V): 1.14; Architecture: Folding Interpolating; Digital Supply(Max)(V): 2.625; Digital Supply(Min)(V): 2.375; ENOB(Bits): 6.6; INL(Max)(+/-LSB): 1; Interface: Serdes; Resolution(Bits): 7.6; Sample Rate(max)(SPS): 5G; SFDR(dB): 50; SINAD(dB): 42; SNR(dB): 42.5; SubFamily: High Speed ADC (>10MSPS); DatasheetVersion: SNAS600A; PackageVersion: Rev. A, 02/2013; PackageReference: NXA292; PackageDescription: 292-Pin Plastic Grid Array, Body 27 x 27 mm, Pitch 1.27 mm; Supplier 1: Digi-Key; Supplier Part Number 1: ADS7800JU/1KG4-ND; Supplier 2: Mouser; Supplier Part Number 2: 595-ADS7800JU/1KG4; Eco-Plan: Green (RoHS & no Sb/Br); Mounting Technology: Surface Mount; ComponentLink1Description: Manufacturer URL; ComponentLink1URL: http://www.ti.com/; ComponentLink2Description: Datasheet; ComponentLink2URL: http://www.ti.com/lit/ds/symlink/lm97600.pdf; ComponentLink3Description: Package Specification; ComponentLink3URL: http://www.ti.com/litv/pdf/mpbgab2
footprint TI-NXA292 (BGA, 292-Balls, Body 27x27mm, Pitch 1.27mm)
part A pins: A2 CLK- (in) "Sampling Clock Input", A3 CLK+ (in) "Sampling Clock Input", A5 SYNC+ (in) "ADC Sync", B5 SYNC- (in) "ADC Sync", D3 ~{SCS} (in) "Serial Chip Select (active low)", E1 VIN1+ (in) "Signal Input 1", E3 SCLK (in) "Serial Interface Clock", E19 ORAC+ (hiz) "Out Of Range AC", E20 ORAC- (hiz) "Out Of Range AC", F1 VIN1- (in) "Signal Input 1", F3 SDI (in) "Serial Data In", F19 DS9+ (hiz) "Data", F20 DS9- (hiz) "Data", G3 SDO (hiz) "Serial Data Out", G19 DS8+ (hiz) "Data", G20 DS8- (hiz) "Data", H1 VIN3- (in) "Signal Input 3", H19 DS7+ (hiz) "Data", H20 DS7- (hiz) "Data", J1 VIN3+ (in) "Signal Input 3", J19 DS6+ (hiz) "Data", J20 DS6- (hiz) "Data", K19 DS5+ (hiz) "Data", K20 DS5- (hiz) "Data", L19 DS4+ (hiz) "Data", L20 DS4- (hiz) "Data", M1 VIN4+ (in) "Signal Input 4", M19 DS3+ (hiz) "Data", M20 DS3- (hiz) "Data", N1 VIN4- (in) "Signal Input 4", N19 DS2+ (hiz) "Data", N20 DS2- (hiz) "Data", P19 DS1+ (hiz) "Data", P20 DS1- (hiz) "Data", R1 VIN2- (in) "Signal Input 2", R19 DS0+ (hiz) "Data", R20 DS0- (hiz) "Data", T1 VIN2+ (in) "Signal Input 2", T19 ORBD+ (hiz) "Out Of Range BD", T20 ORBD- (hiz) "Out Of Range BD", U4 TDIODE- "Temperature Diode", V3 VCMO (out) "Common Mode Voltage", V4 TDIODE+ "Temperature Diode", V5 CALRUN (out) "Calibration Running", W3 REXT "External Bias Resistor Connection", W4 VBG (out) "Bandgap Output Voltage", W5 CAL (in) "Calibration Cycle Initiate", Y4 RTRIM "External Trim Resistor Connection", Y5 PD (in) "Power Down"
part B pins: A6 VO (power) "Output Driver power supply pins", A17 VO (power) "Output Driver power supply pins", A19 VO (power) "Output Driver power supply pins", C1 VTH (power) "Track and Hold power supply pins", C2 VC (power) "Clock power supply pins", C3 VC (power) "Clock power supply pins", C4 VC (power) "Clock power supply pins", C5 VC (power) "Clock power supply pins", C6 VO (power) "Output Driver power supply pins", D2 VTH (power) "Track and Hold power supply pins", D4 VC (power) "Clock power supply pins", D5 VC (power) "Clock power supply pins", G2 VTH (power) "Track and Hold power supply pins", H3 VTH (power) "Track and Hold power supply pins", J3 VTH (power) "Track and Hold power supply pins", J4 VTH (power) "Track and Hold power supply pins", K2 VTH (power) "Track and Hold power supply pins", K3 VTH (power) "Track and Hold power supply pins", K4 VTH (power) "Track and Hold power supply pins", L2 VTH (power) "Track and Hold power supply pins", L3 V25 (power) "2.5V power supply pins", L4 V25 (power) "2.5V power supply pins", M3 V25 (power) "2.5V power supply pins", M4 V25 (power) "2.5V power supply pins", N3 VA (power) "Analog power supply pins", N4 VA (power) "Analog power supply pins", P2 VTH (power) "Track and Hold power supply pins", P3 VA (power) "Analog power supply pins", P4 VA (power) "Analog power supply pins", R3 VA (power) "Analog power supply pins", R4 VA (power) "Analog power supply pins", T3 VA (power) "Analog power supply pins", T4 VA (power) "Analog power supply pins", U2 VTH (power) "Track and Hold power supply pins", U3 VA (power) "Analog power supply pins", V1 VTH (power) "Track and Hold power supply pins", V2 VA (power) "Analog power supply pins", V6 VO (power) "Output Driver power supply pins", W1 VA (power) "Analog power supply pins", W2 VA (power) "Analog power supply pins", Y1 VA (power) "Analog power supply pins", Y2 VA (power) "Analog power supply pins", Y6 VO (power) "Output Driver power supply pins", Y17 VO (power) "Output Driver power supply pins", Y19 VO (power) "Output Driver power supply pins"
part C pins: A1 GND (power) "Ground return for all supplies.", A4 GND (power) "Ground return for all supplies.", A18 GND (power) "Ground return for all supplies.", A20 GND (power) "Ground return for all supplies.", B1 GND (power) "Ground return for all supplies.", B2 GND (power) "Ground return for all supplies.", B3 GND (power) "Ground return for all supplies.", B4 GND (power) "Ground return for all supplies.", B6 GND (power) "Ground return for all supplies.", D1 GND (power) "Ground return for all supplies.", D6 GND (power) "Ground return for all supplies.", E2 GND (power) "Ground return for all supplies.", E4 GND (power) "Ground return for all supplies.", F2 GND (power) "Ground return for all supplies.", G1 GND (power) "Ground return for all supplies.", G4 GND (power) "Ground return for all supplies.", H2 GND (power) "Ground return for all supplies.", H4 GND (power) "Ground return for all supplies.", H8 GND (power) "Ground return for all supplies.", H9 GND (power) "Ground return for all supplies.", H10 GND (power) "Ground return for all supplies.", H11 GND (power) "Ground return for all supplies.", H12 GND (power) "Ground return for all supplies.", H13 GND (power) "Ground return for all supplies.", J2 GND (power) "Ground return for all supplies.", J8 GND (power) "Ground return for all supplies.", J9 GND (power) "Ground return for all supplies.", J10 GND (power) "Ground return for all supplies.", J11 GND (power) "Ground return for all supplies.", J12 GND (power) "Ground return for all supplies.", J13 GND (power) "Ground return for all supplies.", K1 GND (power) "Ground return for all supplies.", K8 GND (power) "Ground return for all supplies.", K9 GND (power) "Ground return for all supplies.", K10 GND (power) "Ground return for all supplies.", K11 GND (power) "Ground return for all supplies.", K12 GND (power) "Ground return for all supplies.", K13 GND (power) "Ground return for all supplies.", L1 GND (power) "Ground return for all supplies.", L8 GND (power) "Ground return for all supplies.", L9 GND (power) "Ground return for all supplies.", L10 GND (power) "Ground return for all supplies.", L11 GND (power) "Ground return for all supplies.", L12 GND (power) "Ground return for all supplies.", L13 GND (power) "Ground return for all supplies.", M2 GND (power) "Ground return for all supplies.", M8 GND (power) "Ground return for all supplies.", M9 GND (power) "Ground return for all supplies.", M10 GND (power) "Ground return for all supplies.", M11 GND (power) "Ground return for all supplies.", M12 GND (power) "Ground return for all supplies.", M13 GND (power) "Ground return for all supplies.", N2 GND (power) "Ground return for all supplies.", N8 GND (power) "Ground return for all supplies.", N9 GND (power) "Ground return for all supplies.", N10 GND (power) "Ground return for all supplies.", N11 GND (power) "Ground return for all supplies.", N12 GND (power) "Ground return for all supplies.", N13 GND (power) "Ground return for all supplies.", P1 GND (power) "Ground return for all supplies.", R2 GND (power) "Ground return for all supplies.", T2 GND (power) "Ground return for all supplies.", U1 GND (power) "Ground return for all supplies.", U6 GND (power) "Ground return for all supplies.", W6 GND (power) "Ground return for all supplies.", Y3 RGND "External Resistor Connection Return", Y18 GND (power) "Ground return for all supplies.", Y20 GND (power) "Ground return for all supplies."
part D pins: A7 NC "No Connection", A8 NC "No Connection", A9 NC "No Connection", A10 NC "No Connection", A11 NC "No Connection", A12 NC "No Connection", A13 NC "No Connection", A14 NC "No Connection", A15 NC "No Connection", A16 NC "No Connection", B7 NC "No Connection", B8 NC "No Connection", B9 NC "No Connection", B10 NC "No Connection", B11 NC "No Connection", B12 NC "No Connection", B13 NC "No Connection", B14 NC "No Connection", B15 NC "No Connection", B16 NC "No Connection", B17 NC "No Connection", B18 NC "No Connection", B19 NC "No Connection", B20 NC "No Connection", C7 NC "No Connection", C8 NC "No Connection", C9 NC "No Connection", C10 NC "No Connection", C11 NC "No Connection", C12 NC "No Connection", C13 NC "No Connection", C14 NC "No Connection", C15 NC "No Connection", C16 NC "No Connection", C17 NC "No Connection", C18 NC "No Connection", C19 NC "No Connection", C20 NC "No Connection", D7 NC "No Connection", D8 NC "No Connection", D9 NC "No Connection", D10 NC "No Connection", D11 NC "No Connection", D12 NC "No Connection", D13 NC "No Connection", D14 NC "No Connection", D15 NC "No Connection", D16 NC "No Connection", D17 NC "No Connection", D18 NC "No Connection", D19 NC "No Connection", D20 NC "No Connection", E17 NC "No Connection", E18 NC "No Connection", F4 DNC "Do Not Connect to Any Circuitry, Power or Ground Signals", F17 NC "No Connection", F18 NC "No Connection", G17 NC "No Connection", G18 NC "No Connection", H17 NC "No Connection", H18 NC "No Connection", J17 NC "No Connection", J18 NC "No Connection", K17 NC "No Connection", K18 NC "No Connection", L17 NC "No Connection", L18 NC "No Connection", M17 NC "No Connection", M18 NC "No Connection", N17 NC "No Connection", N18 NC "No Connection", P17 NC "No Connection", P18 NC "No Connection", R17 NC "No Connection", R18 NC "No Connection", T17 NC "No Connection", T18 NC "No Connection", U5 NC "No Connection", U7 NC "No Connection", U8 NC "No Connection", U9 NC "No Connection", U10 NC "No Connection", U11 NC "No Connection", U12 NC "No Connection", U13 NC "No Connection", U14 NC "No Connection", U15 NC "No Connection", U16 NC "No Connection", U17 NC "No Connection", U18 NC "No Connection", U19 NC "No Connection", U20 NC "No Connection", V7 NC "No Connection", V8 NC "No Connection", V9 NC "No Connection", V10 NC "No Connection", V11 NC "No Connection", V12 NC "No Connection", V13 NC "No Connection", V14 NC "No Connection", V15 NC "No Connection", V16 NC "No Connection", V17 NC "No Connection", V18 NC "No Connection", V19 NC "No Connection", V20 NC "No Connection", W7 NC "No Connection", W8 NC "No Connection", W9 NC "No Connection", W10 NC "No Connection", W11 NC "No Connection", W12 NC "No Connection", W13 NC "No Connection", W14 NC "No Connection", W15 NC "No Connection", W16 NC "No Connection", W17 NC "No Connection", W18 NC "No Connection", W19 NC "No Connection", W20 NC "No Connection", Y7 NC "No Connection", Y8 NC "No Connection", Y9 NC "No Connection", Y10 NC "No Connection", Y11 NC "No Connection", Y12 NC "No Connection", Y13 NC "No Connection", Y14 NC "No Connection", Y15 NC "No Connection", Y16 NC "No Connection"